# Altium footprint library Capacitors.PcbLib: 29 footprints (part 1 of 2)
Each footprint in its own frame and in the unit in brackets; x right, y up, seen from the top. Pads: shape width x height; smd on the part's side, far side on the other; paste and mask are expansions set on the pad; w line width, h text height; cw(c..) or ccw(c..) is an arc to the next point about the centre after c.
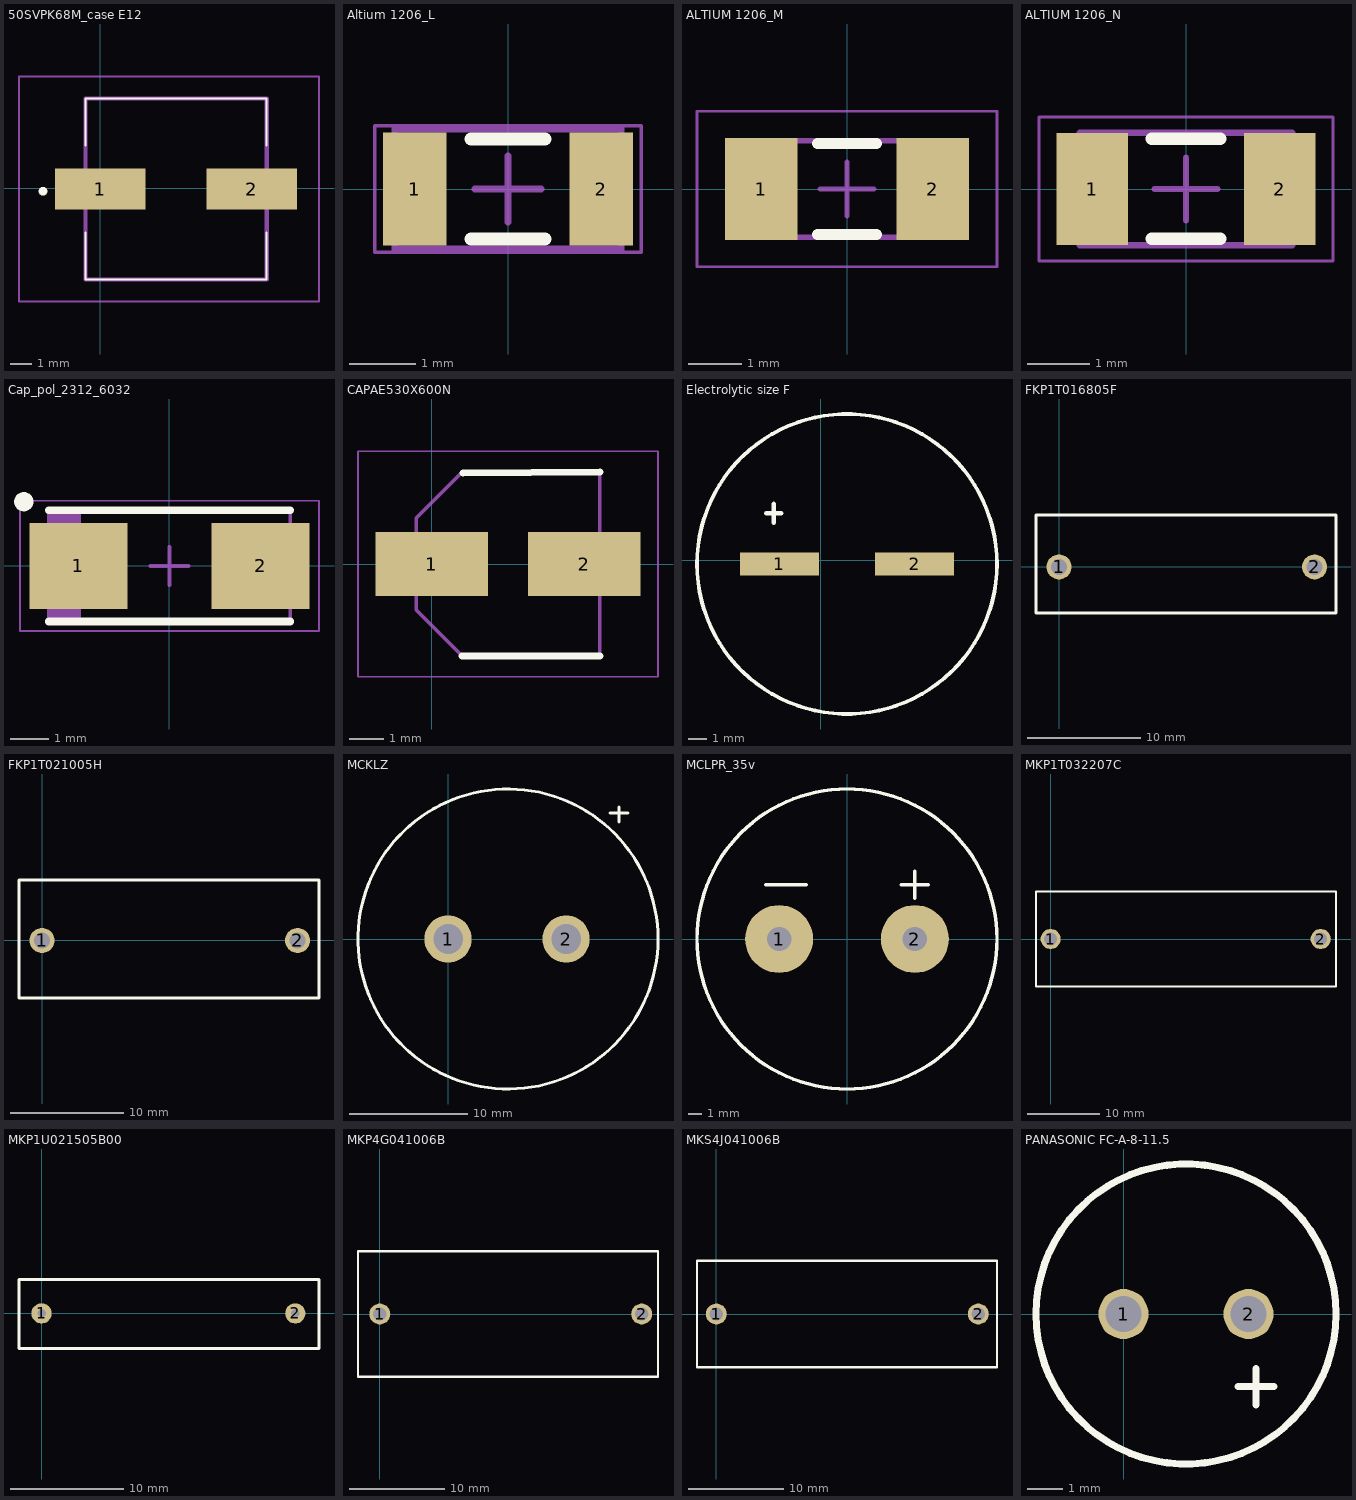
[diagram p0: the footprints below, top view; thin cyan lines are the x and y axes]

## 50SVPK68M_case E12 [mm]
height 11.9
pads (2):
  rect 4.15x1.9 smd: 1(0,-0.025) 2(6.95,-0.025)
Top Overlay:
  lines w0.1: -0.675,-2.025 -0.675,-4.175 7.625,-4.175 7.625,-2.025 ; -0.675,1.975 -0.675,4.125 7.625,4.125 7.625,1.975
  lines w0.2: -2.625,-0.225 ccw(c-2.625,-0.125) -2.625,-0.025 ccw(c-2.625,-0.125) -2.625,-0.225
Mechanical 13:
  lines w0.2: -0.675,-4.175 7.625,-4.175 7.625,4.125 -0.675,4.125 -0.675,-4.175
Mechanical 15:
  lines w0.1: -3.725,-5.175 10.025,-5.175 10.025,5.125 -3.725,5.125 -3.725,-5.175
3D body: height 0.25, standoff 0, extent 7.55,-7.25 7.55,-7.25
3D body "PANASONIC_size F8.STEP": height 7.9, standoff -0.05, extent -2,-5.15 9,5.15

## Altium 1206_L [mm] "Altium 1206_L"
height 2
pads (2):
  rect 0.95x1.7 smd: 1(-1.4,0) 2(1.4,0)
Top Overlay:
  lines w0.2: -0.55,-0.75 0.55,-0.75 ; -0.55,0.75 0.55,0.75
Mechanical 13:
  lines w0.1: -1.7,-0.9 -1.7,0.9 1.7,0.9 1.7,-0.9 -1.7,-0.9
Mechanical 15:
  lines w0.05: -2,-0.95 -2,0.95 2,0.95 2,-0.95 -2,-0.95
  lines w0.1: -0.5,0 0.5,0 ; 0,-0.5 0,0.5
3D body: height 1.7, standoff 0, extent -1.2,-0.9 1.2,0.9
3D body: height 1.7, standoff 0, extent -1.7,-0.9 -1.2,0.9
3D body: height 1.7, standoff 0, extent 1.2,-0.9 1.7,0.9

## ALTIUM 1206_M [mm] "ALTIUM 1206_M"
height 2
pads (2):
  rect 1.35x1.9 smd: 1(-1.6,0) 2(1.6,0)
Top Overlay:
  lines w0.2: -0.55,-0.85 0.55,-0.85 ; -0.55,0.85 0.55,0.85
Mechanical 13:
  lines w0.1: -1.7,-0.9 -1.7,0.9 1.7,0.9 1.7,-0.9 -1.7,-0.9
Mechanical 15:
  lines w0.05: -2.8,-1.45 -2.8,1.45 2.8,1.45 2.8,-1.45 -2.8,-1.45
  lines w0.1: -0.5,0 0.5,0 ; 0,-0.5 0,0.5
3D body: height 1.7, standoff 0, extent -1.2,-0.9 1.2,0.9
3D body: height 1.7, standoff 0, extent -1.7,-0.9 -1.2,0.9
3D body: height 1.7, standoff 0, extent 1.2,-0.9 1.7,0.9

## ALTIUM 1206_N [mm] "ALTIUM 1206_N"
height 2
pads (2):
  rect 1.15x1.8 smd: 1(-1.5,0) 2(1.5,0)
Top Overlay:
  lines w0.2: -0.55,-0.8 0.55,-0.8 ; -0.55,0.8 0.55,0.8
Mechanical 13:
  lines w0.1: -1.7,-0.9 1.7,-0.9 1.7,0.9 -1.7,0.9 -1.7,-0.9
Mechanical 15:
  lines w0.05: -2.35,-1.15 2.35,-1.15 2.35,1.15 -2.35,1.15 -2.35,-1.15
  lines w0.1: -0.5,0 0.5,0 ; 0,-0.5 0,0.5
3D body: height 1.7, standoff 0, extent 1.2,-0.9 1.7,0.9
3D body: height 1.7, standoff 0, extent -1.7,-0.9 -1.2,0.9
3D body: height 1.7, standoff 0, extent -1.2,-0.9 1.2,0.9

## Cap_pol_2312_6032 [mm] "Molded Capacitor, 2-Leads, Body 6.00x3.20mm, IPC Medium Density"
height 2.8
pads (2):
  rect 2.55x2.25 smd: 1(-2.375,0) 2(2.375,0)
Top Overlay:
  circle w0.25: c-3.8,1.675 r0.125
  lines w0.2: -3.15,-1.45 3.15,-1.45 ; -3.15,1.45 3.15,1.45
Mechanical 13:
  rectangle: -3.15,-1.45 -2.303,1.45
  lines w0.1: -3.15,-1.45 3.15,-1.45 3.15,1.45 -3.15,1.45 -3.15,-1.45
Mechanical 15:
  lines w0.05: -3.9,-1.7 3.9,-1.7 3.9,1.7 -3.9,1.7 -3.9,-1.7
  lines w0.1: -0.5,0 0.5,0 ; 0,-0.5 0,0.5
3D body "CAPMP6032X28N.step": height 2.8, standoff 0, extent -3.37,-1.45 3.37,1.45

## CAPAE530X600N [mm] "panasonic SVPE series size B6"
height 6
pads (2):
  rect 3.25x1.85 smd: 1(0,0) 2(4.4,0)
Top Overlay:
  lines w0.2: 0.875,-2.65 4.85,-2.65 ; 0.9,2.625 4.85,2.65
Mechanical 13:
  lines w0.1: -0.45,-1.325 -0.45,1.325 0.875,2.65 4.85,2.65 4.85,-2.65 0.875,-2.65 -0.45,-1.325
Mechanical 15:
  lines w0.05: -2.125,-3.25 6.525,-3.25 6.525,3.25 -2.125,3.25 -2.125,-3.25
3D body "6SVPE220MW.stp": height 6, standoff 0, extent -0.9,-2.7 5.3,2.8

## Electrolytic size F [mm] "Capacitor size F"
height 10
pads (2):
  rect 4.2x1.2 smd: 1(-2.2,-0.2) 2(5,-0.2)
Top Overlay:
  circle w0.2: c1.4,-0.2 r8
  lines w0.25: -2.9,2.5 -2.1,2.5 ; -2.5,2 -2.5,3
3D body "PANASONIC_size F8.STEP": height 7.9, standoff -0.05, extent -4.1,-5.35 6.9,4.95

## FKP1T016805F [mm]
pads (2):
  round 2.2 hole 1.4: 1(0,0) 2(22.5,0)
Top Overlay:
  lines w0.254: -2.032,-4.064 24.384,-4.064 24.384,4.572 -2.032,4.572 -2.032,-4.064
3D body: height 18.5, standoff 0, extent -2.032,-4.064 24.384,4.572

## FKP1T021005H [mm] "Film Capacitors 0.01 uF 1600 VDC"
pads (2):
  round 2.2 hole 1.4: 1(0,0) 2(22.5,0)
Top Overlay:
  lines w0.254: -2.032,-5.08 -2.032,5.334 24.384,5.334 24.384,-5.08 -2.032,-5.08
3D body: height 20.5, standoff 0, extent -2.032,-5.334 24.384,5.334

## MCKLZ [mm] "Multicomp high value mains rated capaitor"
height 46
pads (2):
  round 4 hole 2.5: 1(0,0) 2(10,0)
Top Overlay:
  circle w0.254: c5.08,0 r12.71
  lines w0.254: 13.716,10.668 15.24,10.668 ; 14.478,9.906 14.478,11.176

## MCLPR_35v [mm] "Capacitor MCLPR from Multicomp"
height 30
pads (2):
  round 5 hole 1.8: 1(-5,0) 2(5,0)
Top Overlay:
  circle w0.254: c0,0 r11.045
  lines w0.25: -6,4 -3,4 ; 4,4 6,4 ; 5,3 5,5
3D body: height 30, standoff 0, extent -11,-10.9 11,11.1

## MKP1T032207C [mm] ".22uF 1600V"
height 24
pads (2):
  round 2.8 hole 1.8: 1(0,0) 2(37.5,0)
Top Overlay:
  lines w0.254: -2.032,-6.604 39.624,-6.604 39.624,6.604 -2.032,6.604 -2.032,-6.604
3D body: height 24, standoff 0, extent -2.032,-6.604 39.624,6.604

## MKP1U021505B00 [mm] "0.015uF 2kV Capacitor"
pads (2):
  round 1.8 hole 0.762: 1(0,0) 2(22.5,0)
Top Overlay:
  lines w0.254: -2,-3.1 -2,3 24.5,3 ; -1.9,-3.1 24.6,-3.1 24.6,3
3D body: height 15, standoff 0.3, extent -2,-3.1 24.6,3

## MKP4G041006B [mm] "Film Capacitors 1.0 uF 400 VDC 10%"
pads (2):
  round 2.2 hole 1.4: 1(0,0) 2(27.5,0)
Top Overlay:
  lines w0.254: -2.286,-6.604 29.21,-6.604 29.21,6.604 -2.286,6.604 -2.286,-6.604
3D body: height 24, standoff 0, extent -2.286,-6.604 29.21,6.604

## MKS4J041006B [mm]
pads (2):
  round 2.2 hole 1.4: 1(0,0) 2(27.5,0)
Top Overlay:
  lines w0.254: -2.032,-5.588 -2.032,5.588 29.464,5.588 29.464,-5.588 -2.032,-5.588
3D body: height 21, standoff 0, extent -2.032,-5.588 29.464,5.588

## PANASONIC FC-A-8-11.5 [mm]
pads (2):
  round 1.4 hole 1: 1(0,0) 2(3.5,0)
Top Overlay:
  circle w0.2: c1.75,0 r4.2
  lines w0.2: 3.202,-2.032 4.218,-2.032 ; 3.71,-2.54 3.71,-1.524
3D body: height 11.5, standoff 0, extent -2.222,-3.997 5.778,3.997